# EAGLE library part AVR_SPI_PRG_10 (library PiB_connectors)
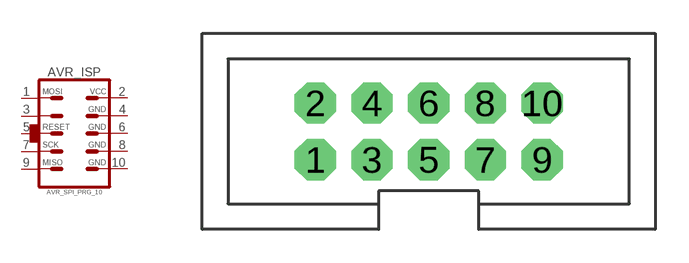
[diagram p20: symbol with the pads of 2X05_VERT_MALE_SHROUDED_KEYED; footprint 2X05_VERT_MALE_SHROUDED_KEYED]

Designator prefix AVR_ISP

## AVR_SPI_PRG_10_PTH_VERT_MALE_SHROUDED_KEYED_2.54MM (DATASHEET: http://multimedia.3m.com/mws/media/22504O/3mtm-100-in-loprof-hdr-100x-100strt-ra-4-wall-ts0818.pdf; DATASHEET_CABLE: https://media.digikey.com/pdf/Data%20Sheets/Sparkfun%20PDFs/DEV-09215_Web.pdf; DIST: Digikey; DISTLINK: https://www.digikey.com/products/en?keywords=30310-6002HB-ND; DISTLINK_CABLE: https://www.digikey.com/products/en?keywords=1568-1361-ND; DISTPN: 30310-6002HB-ND; DISTPN_CABLE: 1568-1361-ND; DIST_CABLE: Digikey; MFR: 3M; MFR_CABLE: SparkFun Electronics; MPN: 30310-6002HB; MPN_CABLE: DEV-09215; VALUE: PTH VERT SHROUDED)  [2X05_VERT_MALE_SHROUDED_KEYED]
1  MOSI
2  VCC  nc
3  NC  nc
4  GND  pwr
5  RESET
6  GND  pwr
7  SCK
8  GND  pwr
9  MISO
10  GND  pwr

## Footprint 2X05_VERT_MALE_SHROUDED_KEYED (pad centres in mm)
drill 1 pad 1.85 octagon: 1 -5.08,-1.27; 2 -5.08,1.27; 3 -2.54,-1.27; 4 -2.54,1.27; 5 0,-1.27; 6 0,1.27; 7 2.54,-1.27; 8 2.54,1.27; 9 5.08,-1.27; 10 5.08,1.27